# Altium schematic symbol library SM04B-SRSS-TB.SchLib: 1 symbol
Pins are listed as number, name and electrical type; pins without a type are passive.

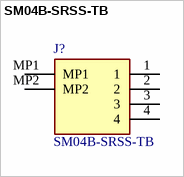
[diagram p0: symbol SM04B-SRSS-TB]

## SM04B-SRSS-TB
designator J?
CONN HEADER SMD R/A 4POS 1MM; Manufacturer_Name: JST (JAPAN SOLDERLESS TERMINALS); Geometry.Height: 2.9mm; Manufacturer_Part_Number: SM04B-SRSS-TB; Mouser Part Number: *; Mouser Price/Stock: *; Arrow Part Number: *; Arrow Price/Stock: *; Datasheet Link: https://www.jst-mfg.com/product/pdf/eng/eSH.pdf?61bf6c80a2dbc
footprint SM04BSRSSTB
pins: 1, 2, 3, 4, MP1, MP2